# Altium footprint library SoldeerStation.PcbLib: 32 footprints (part 1 of 2)
Each footprint in its own frame and in the unit in brackets; x right, y up, seen from the top. Pads: shape width x height; smd on the part's side, far side on the other; paste and mask are expansions set on the pad; w line width, h text height; cw(c..) or ccw(c..) is an arc to the next point about the centre after c.
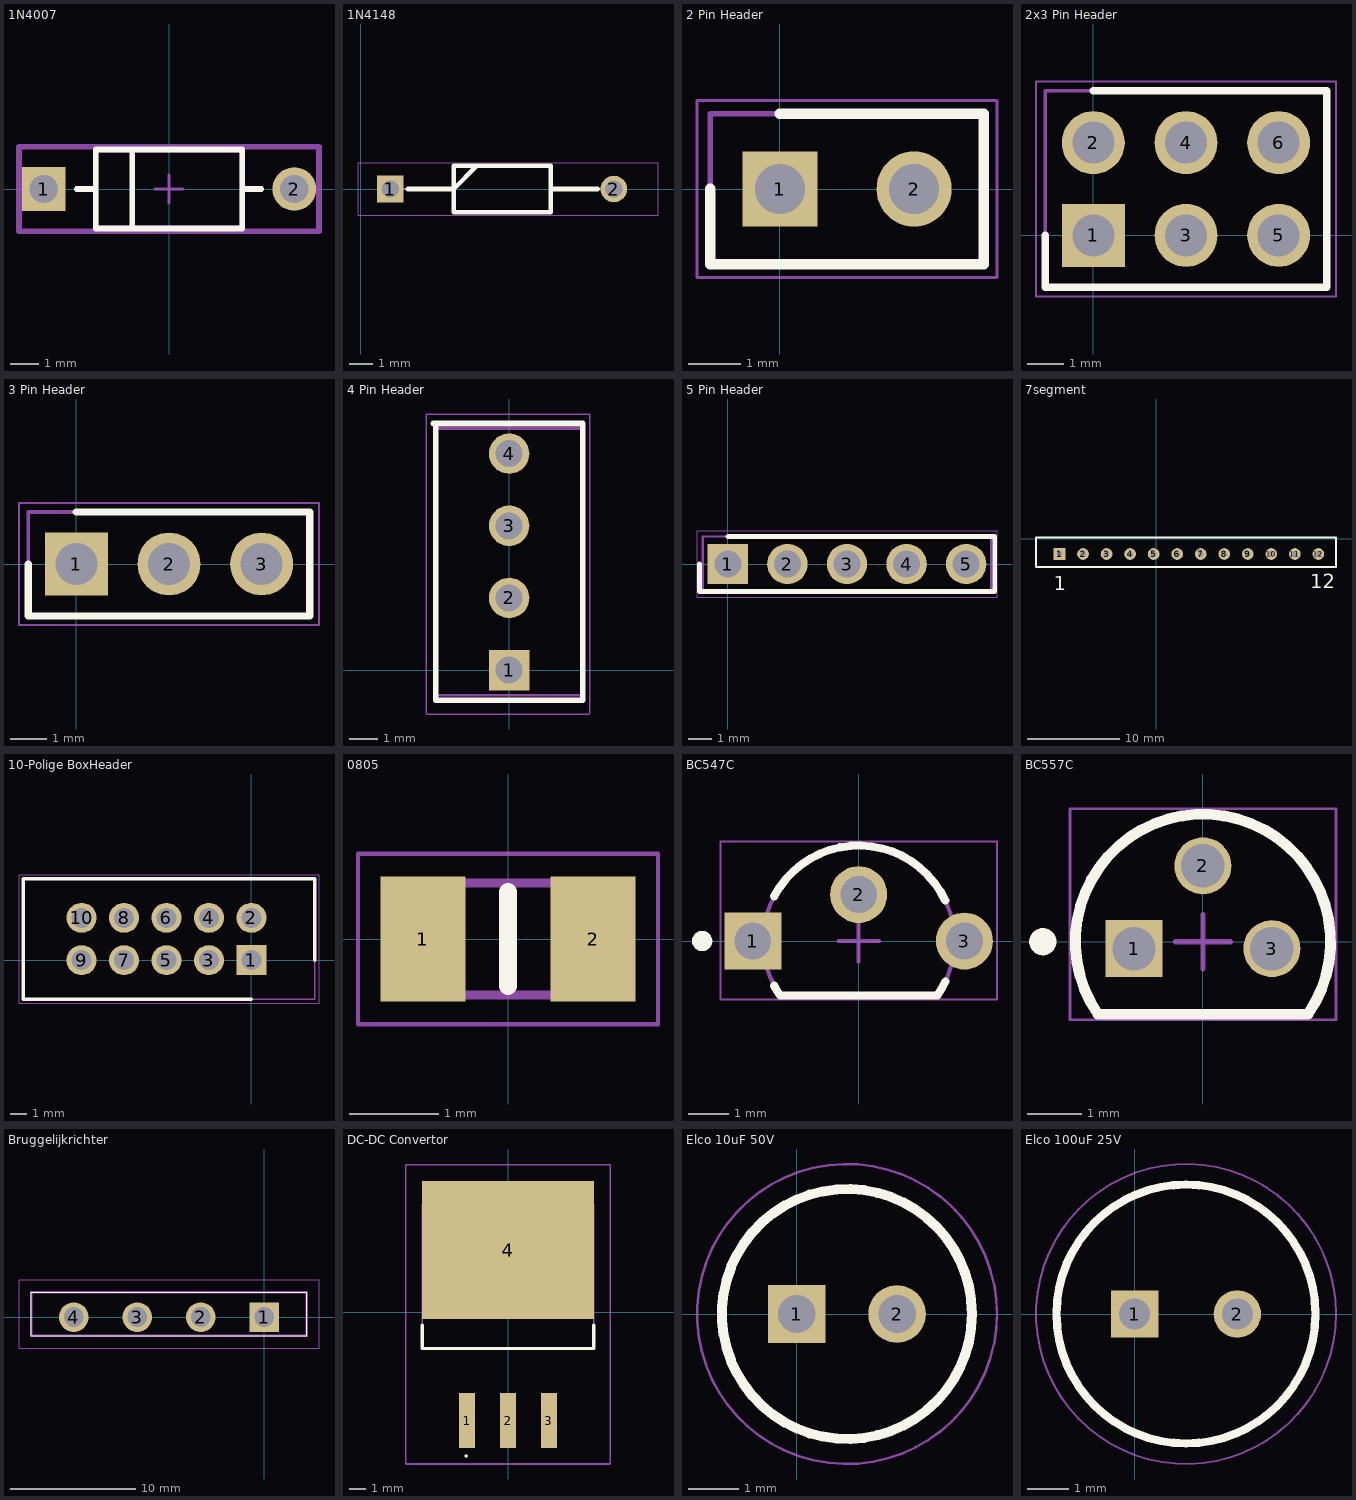
[diagram p0: the footprints below, top view; thin cyan lines are the x and y axes]

## 1N4007 [mm] "1N4007, 1000 V, 1 A"
pads (2):
  rect 1.55x1.55 hole 1 paste-2539.97 mask+0: 1(-4.44,0)
  round 1.55 hole 1 paste-2539.97 mask+0: 2(4.44,0)
Top Overlay:
  lines w0.2: -3.265,0 -2.6,0 ; -1.3,-1.33 -1.3,1.33 ; 2.6,0 3.265,0 ; -2.6,-1.4 2.6,-1.4 2.6,1.4 -2.6,1.4 -2.6,-1.4
Top 3D Body:
  lines w0.2: -2.6,-1.4 2.6,-1.4 2.6,1.4 -2.6,1.4 -2.6,-1.4
Top Courtyard:
  lines w0.2: -5.315,-1.5 5.315,-1.5 5.315,1.5 -5.315,1.5 -5.315,-1.5
Top Assembly:
  lines w0.2: -5.315,-1.5 5.315,-1.5 5.315,1.5 -5.315,1.5 -5.315,-1.5
Top Component Center:
  lines w0.1: -0.5,0 0.5,0 ; 0,-0.5 0,0.5
3D body "Diode_Diotec_1N4007_eec.STEP": height 0.25, standoff 0, extent -5.315,-1.5 5.315,1.5

## 1N4148 [mm] "DIOAD1220W56L420D200"
pads (2):
  rect 1.15x1.15 hole 0.75: 1(1.27,0)
  round 1.15 hole 0.75: 2(10.922,0)
Top Overlay:
  lines w0.2: 2.032,0 4,0 5,1 ; 8.255,0 10.223,0 ; 4,-1 8.2,-1 8.2,1 4,1 4,-1
Mechanical 13:
  lines w0.1: 0.889,0 4,0 5,1 ; 8.255,0 11.366,0 ; 4,-1 8.2,-1 8.2,1 4,1 4,-1
Mechanical 15:
  lines w0.05: -0.127,-1.143 12.827,-1.143 12.827,1.143 -0.127,1.143 -0.127,-1.143
3D body "1N4148-B.stp": height 1.99, standoff -2, extent -0.057,-1.016 12.7,0.98

## 2 Pin Header [mm]
pads (2):
  rect 1.425x1.425 hole 0.95: 1(0,0)
  round 1.425 hole 0.95: 2(2.54,0)
Top Overlay:
  lines w0.2: -1.32,0 -1.32,-1.425 3.86,-1.425 3.86,1.425 0,1.425
Mechanical 13:
  lines w0.1: -1.32,-1.425 3.86,-1.425 3.86,1.425 -1.32,1.425 -1.32,-1.425
Mechanical 15:
  lines w0.05: -1.57,-1.675 4.11,-1.675 4.11,1.675 -1.57,1.675 -1.57,-1.675
3D body "5-146280-2.stp": height 8.12, standoff -3.05, extent -1.067,-1.168 3.607,1.168

## 2x3 Pin Header [mm] "HDRV6W67P254_2X3_721X488X872P"
pads (6):
  rect 1.725x1.725 hole 1.15: 1(0,0)
  round 1.725 hole 1.15: 2(0,2.54) 3(2.54,0) 4(2.54,2.54) 5(5.08,0) 6(5.08,2.54)
Top Overlay:
  lines w0.2: -1.32,0 -1.32,-1.425 6.4,-1.425 6.4,3.965 0,3.965
Mechanical 13:
  lines w0.1: -1.32,-1.425 -1.32,3.965 6.4,3.965 6.4,-1.425 -1.32,-1.425
Mechanical 15:
  lines w0.05: -1.57,-1.675 -1.57,4.215 6.65,4.215 6.65,-1.675 -1.57,-1.675
3D body "5-146256-3.stp": height 8.12, standoff -3.05, extent -1.067,-1.168 6.147,3.708

## 3 Pin Header [mm]
pads (3):
  rect 1.725x1.725 hole 1.15: 1(0,0)
  round 1.725 hole 1.15: 2(2.54,0) 3(5.08,0)
Top Overlay:
  lines w0.2: -1.32,0 -1.32,-1.425 6.4,-1.425 6.4,1.425 0,1.425
Mechanical 13:
  lines w0.1: -1.32,-1.425 6.4,-1.425 6.4,1.425 -1.32,1.425 -1.32,-1.425
Mechanical 15:
  lines w0.05: -1.57,-1.675 6.65,-1.675 6.65,1.675 -1.57,1.675 -1.57,-1.675
3D body "5-146280-3.stp": height 8.12, standoff -3.05, extent -1.067,-1.168 6.147,1.168

## 4 Pin Header [mm]
pads (4):
  rect 1.425x1.425 hole 0.95: 1(0,0)
  round 1.425 hole 0.95: 2(0,2.54) 3(0,5.08) 4(0,7.62)
Top Overlay:
  lines w0.2: -2.667,8.683 2.59,8.683 2.59,-1.062 -2.59,-1.062 -2.59,8.636
Mechanical 13:
  lines w0.1: -2.59,-0.889 2.59,-0.889 2.59,8.509 -2.59,8.509 -2.59,-0.889
Mechanical 15:
  lines w0.05: -2.921,-1.548 -0.846,-1.548 2.828,-1.548 2.84,-1.513 2.84,9.017 -2.921,9.017 -2.921,0.865 -2.921,-1.524
3D body "5-146280-4.stp": height 8.21, standoff -3.43, extent -2.335,-0.384 2.335,8.004

## 5 Pin Header [mm]
pads (5):
  rect 1.725x1.725 hole 1.15: 1(0,0)
  round 1.725 hole 1.15: 2(2.54,0) 3(5.08,0) 4(7.62,0) 5(10.16,0)
Top Overlay:
  lines w0.2: -1.212,0 -1.212,-1.17 11.373,-1.17 11.373,1.17 0,1.17
Mechanical 13:
  lines w0.1: -1.065,-1.17 11.225,-1.17 11.225,1.17 -1.065,1.17 -1.065,-1.17
Mechanical 15:
  lines w0.05: -1.315,-1.42 11.475,-1.42 11.475,1.42 -1.315,1.42 -1.315,-1.42
3D body "5-146280-5.stp": height 8.12, standoff -3.05, extent -1.067,-1.168 11.227,1.168

## 7segment [mil]
pads (12):
  rect 50x50 hole 25: 1(-410,-65)
  round 50 hole 25: 2(-310,-65) 3(-210,-65) 4(-110,-65) 5(-10,-65) 6(90,-65) 7(190,-65) 8(290,-65) 9(390,-65) 10(490,-65) 11(590,-65) 12(690,-65)
Top Overlay:
  lines w10: -510,-120 -510,5 -475,5 765,5 765,-120 -510,-120
  text "12" at 655,-210 h60
  text "1" at -435,-220 h60

## 10-Polige BoxHeader [mm]
pads (10):
  rect 1.8x1.8 hole 1.2: 1(0,0)
  round 1.8 hole 1.2: 2(0,2.54) 3(-2.54,0) 4(-2.54,2.54) 5(-5.08,0) 6(-5.08,2.54) 7(-7.62,0) 8(-7.62,2.54) 9(-10.16,0) 10(-10.16,2.54)
Top Overlay:
  lines w0.2: 0,-2.33 -13.66,-2.33 -13.66,4.87 3.8,4.87 3.8,0
Mechanical 13:
  lines w0.1: -13.66,-2.33 3.8,-2.33 3.8,4.87 -13.66,4.87 -13.66,-2.33
Mechanical 15:
  lines w0.05: -13.91,-2.58 4.05,-2.58 4.05,5.12 -13.91,5.12 -13.91,-2.58
3D body "BOX-HEADER-TEST.stp": height 9.9, standoff -3, extent -13.66,-2.23 3.5,4.77

## 0805 [mm]
pads (2):
  rect 0.95x1.4 smd: 1(-0.95,0) 2(0.95,0)
Top Overlay:
  lines w0.2: 0,-0.525 0,0.525
Mechanical 13:
  lines w0.1: -1,-0.625 -1,0.625 1,0.625 1,-0.625 -1,-0.625
Mechanical 15:
  lines w0.05: -1.675,-0.95 -1.675,0.95 1.675,0.95 1.675,-0.95 -1.675,-0.95
3D body "AC0805FR-7W2KL.stp": height 0.6, standoff 0, extent -1,-0.625 1,0.625

## BC547C [mm] "TO, 3-Leads, Body Dia 4.7mm, Pitch 2.6mm"
height 8.923
pads (3):
  rect 1.4x1.4 hole 0.9: 1(-2.6,0)
  round 1.4 hole 0.9: 2(0,1.143) 3(2.6,0)
Top Overlay:
  circle w0.25: c-3.85,0 r0.125
  lines w0.2: -2.077,-1.1 ccw(c0,0) -1.934,-1.335 1.934,-1.335 ccw(c0,0) 2.129,-0.994 ; -2.077,1.1 cw(c0,0) 2.129,0.994
Mechanical 13:
  lines w0.1: -1.934,-1.335 cw(c0,0) 1.934,-1.335 -1.934,-1.335
Mechanical 15:
  lines w0.05: -3.4,-1.435 -3.4,2.45 3.4,2.45 3.4,-1.435 -3.4,-1.435
  lines w0.1: -0.5,0 0.5,0 ; 0,-0.5 0,0.5
3D body "PCB3.step": height 4, standoff -8.7, extent -2.836,-0.222 2.836,0.223
3D body: height 5.33, standoff 1.5, extent -2.359,-1.335 2.359,2.351

## BC557C [mm] "TO, 3-Leads, Body Dia 4.7mm, Pitch 1.27mm"
height 7.87
pads (3):
  rect 1.05x1.05 hole 0.8: 1(-1.27,-0.127)
  round 1.05 hole 0.8: 2(0,1.397) 3(1.27,-0.127)
Top Overlay:
  circle w0.25: c-2.95,0 r0.125
  lines w0.2: -1.934,-1.335 cw(c0,0) 1.934,-1.335 -1.934,-1.335
Mechanical 13:
  lines w0.1: -1.934,-1.335 cw(c0,0) 1.934,-1.335 -1.934,-1.335
Mechanical 15:
  lines w0.05: -2.45,-1.435 2.45,-1.435 2.45,2.45 -2.45,2.45 -2.45,-1.435
  lines w0.1: -0.5,0 0.5,0 ; 0,-0.5 0,0.5
3D body: height 7.87, standoff 2.54, extent -2.349,-1.334 2.357,2.359

## Bruggelijkrichter [mm]
pads (4):
  rect 2.37x2.37 hole 1.58: 1(0,0)
  round 2.37 hole 1.58: 2(-5.08,0) 3(-10.16,0) 4(-15.24,0)
Top Overlay:
  lines w0.1: -18.62,-1.5 -18.62,2 3.38,2 3.38,-1.5 -18.62,-1.5
Mechanical 13:
  lines w0.2: -18.62,-1.5 -18.62,2 3.38,2 3.38,-1.5 -18.62,-1.5
Mechanical 15:
  lines w0.1: -19.62,-2.5 -19.62,3 4.38,3 4.38,-2.5 -19.62,-2.5
3D body "GBU6J.stp": height 18.9, standoff -5, extent -18.62,-1.5 3.38,2

## DC-DC Convertor [mm]
pads (4):
  rect 1x3.4 smd: 1(-2.54,-6.745) 2(0,-6.745) 3(2.54,-6.745)
  rect 10.7x8.6 smd: 4(0,3.855)
Top Overlay:
  lines w0.1: -2.6,-9 ccw(c-2.6,-8.95) -2.6,-8.9 ccw(c-2.6,-8.95) -2.6,-9
  lines w0.2: -5.33,-0.8 -5.33,-2.27 5.33,-2.27 5.33,-0.8
Mechanical 13:
  lines w0.1: -5.33,-2.27 5.33,-2.27 5.33,6.745 -5.33,6.745 -5.33,-2.27
Mechanical 15:
  lines w0.1: -6.35,-9.445 6.35,-9.445 6.35,9.155 -6.35,9.155 -6.35,-9.445

## Elco 10uF 50V [mm] "CAPPRD200W55D500H1250"
pads (2):
  rect 1.15x1.15 hole 0.75: 1(0,0)
  round 1.15 hole 0.75: 2(2,0)
Top Overlay:
  circle w0.2: c1,0 r2.5
Mechanical 13:
  circle w0.1: c1,0 r2.5
Mechanical 15:
  circle w0.05: c1,0 r3
3D body "EEU-FR1H100.stp": height 12.5, standoff -10, extent -1.75,-2.75 3.75,2.75

## Elco 100uF 25V [mm]
pads (2):
  rect 1.15x1.15 hole 0.75: 1(0,0)
  round 1.15 hole 0.75: 2(2.5,0)
Top Overlay:
  circle w0.2: c1.25,0 r3.15
Mechanical 13:
  circle w0.1: c1.25,0 r3.15
Mechanical 15:
  circle w0.05: c1.25,0 r3.65
3D body "EEU-HD1E101H.stp": height 12.7, standoff -10, extent -2.15,-3.4 4.65,3.4